# Altium integrated library WP-BUTR.intlib: 6 symbols
Pins are listed as number, name and electrical type; pins without a type are passive.

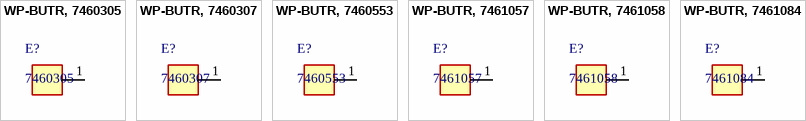
[diagram p0: symbols WP-BUTR, 7460305 to WP-BUTR, 7461084]

## WP-BUTR, 7460305
designator E?, comment 7460305
WP-BUTR Bushes with two Rows Pin-Plate, M5, blind thr 6mm; Manufacturer: Wurth Elektronik; partNo: 7460305; ComponentLink1Description: Manufacturer; ComponentLink1URL: http://www.we-online.de; Created by: Baojun Chen; Created Date: Nov.2015; ComponentLink2Description: Datasheet; ComponentLink2URL: http://katalog.we-online.de/em/datasheet/7460305.pdf
footprint 7460305_Chemical Surface (WP-BUTR Bushes with two Rows Pin-Plate, M5, blind thr 6mm)
footprint 7460305_HAL Surface (WP-BUTR Bushes with two Rows Pin-Plate, M5, blind thr 6mm)
pins: 1

## WP-BUTR, 7460307
designator E?, comment 7460307
WP-BUTR Bushes with two Rows Pin-Plate, M4, blind thr 6mm; Manufacturer: Wurth Elektronik; partNo: 7460307; ComponentLink1Description: Manufacturer; ComponentLink1URL: http://www.we-online.de; Created by: Baojun Chen; Created Date: Nov.2015; ComponentLink2Description: Datasheet; ComponentLink2URL: http://katalog.we-online.de/em/datasheet/7460307.pdf
footprint 7460307 (WP-BUTR Bushes with two Rows Pin-Plate, M4, blind thr 6mm)
pins: 1

## WP-BUTR, 7460553
designator E?, comment 7460553
WP-BUTR Bushes with two Rows Pin-Plate, M8, blind thr 10mm; Manufacturer: Wurth Elektronik; partNo: 7460553; ComponentLink1Description: Manufacturer; ComponentLink1URL: http://www.we-online.de; Created by: Baojun Chen; Created Date: Nov.2015; ComponentLink2Description: Datasheet; ComponentLink2URL: http://katalog.we-online.de/em/datasheet/7460553.pdf
footprint 7460553_Chemical Surface (WP-BUTR Bushes with two Rows Pin-Plate, M8, blind thr 10mm)
footprint 7460553_HAL Surface (WP-BUTR Bushes with two Rows Pin-Plate, M8, blind thr 10mm)
pins: 1

## WP-BUTR, 7461057
designator E?, comment 7461057
WP-BUTR Bushes with two Rows Pin-Plate, M3, blind thr 6mm; Manufacturer: Wurth Elektronik; partNo: 7461057; ComponentLink1Description: Manufacturer; ComponentLink1URL: http://www.we-online.de; Created by: Baojun Chen; Created Date: Nov.2015; ComponentLink2Description: Datasheet; ComponentLink2URL: http://katalog.we-online.de/em/datasheet/7461057.pdf
footprint 7461057_Chemical Surface (WP-BUTR Bushes with two Rows Pin-Plate, M3, blind thr 6mm)
footprint 7461057_HAL Surface (WP-BUTR Bushes with two Rows Pin-Plate, M3, blind thr 6mm)
pins: 1

## WP-BUTR, 7461058
designator E?, comment 7461058
WP-BUTR Bushes with two Rows Pin-Plate, M10, blind 11mm; Manufacturer: Wurth Elektronik; partNo: 7461058; ComponentLink1Description: Manufacturer; ComponentLink1URL: http://www.we-online.de; Created by: Baojun Chen; Created Date: Nov.2015; ComponentLink2Description: Datasheet; ComponentLink2URL: http://katalog.we-online.de/em/datasheet/7461058.pdf
footprint 7461058_Chemical Surface (WP-BUTR Bushes with two Rows Pin-Plate, M10, blind 11mm)
footprint 7461058_HAL Surface (WP-BUTR Bushes with two Rows Pin-Plate, M10, blind 11mm)
pins: 1

## WP-BUTR, 7461084
designator E?, comment 7461084
WP-BUTR Bushes with two Rows Pin-Plate, M6, blind 9mm; Manufacturer: Wurth Elektronik; partNo: 7461084; ComponentLink1Description: Manufacturer; ComponentLink1URL: http://www.we-online.de; Created by: Baojun Chen; Created Date: Nov.2015; ComponentLink2Description: Datasheet; ComponentLink2URL: http://katalog.we-online.de/em/datasheet/7461084.pdf
footprint 7461084_Chemical Surface (WP-BUTR Bushes with two Rows Pin-Plate, M6, blind 9mm)
footprint 7461084_HAL Surface (WP-BUTR Bushes with two Rows Pin-Plate, M6, blind 9mm)
pins: 1